# EAGLE library part SOWTER_8044 (library tsyklon-labs)
Sowter Type 8044 Direct Injection (DI) Box Transformer DOUBLE FARADAY SHIELDS http://www.sowter.co.uk/specs/8044.htm
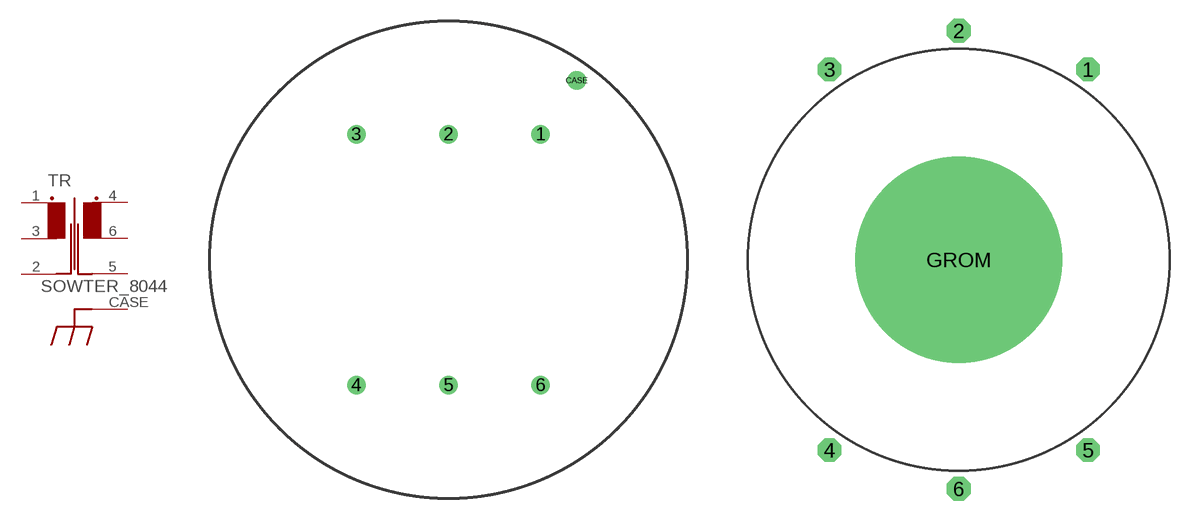
[diagram p2: symbol with the pads of 8044_PCB; footprints 8044_PCB, 8044_GROM]

Designator prefix TR

## SOWTER_8044-PCB  [8044_PCB]
1  1  pas
2  2  pas
3  3  pas
4  4  pas
5  5  pas
6  6  pas
CASE  CASE  pas

## SOWTER_8044-GROM  [8044_GROM]
1  1  pas
2  2  pas
3  3  pas
4  4  pas
5  5  pas
6  6  pas
GROM  CASE  pas

## Footprint 8044_PCB (pad centres in mm)
Audio Transformer MIL-T-27E High Reliability: Red Spec Series Source: www.triadmagnetics.com .. SP-67.pdf
drill 0.8: 1 6.5,8.85; 2 0,8.85; 3 -6.5,8.85; 4 -6.5,-8.85; 5 0,-8.85; 6 6.5,-8.85; CASE 9.04,12.66

## Footprint 8044_GROM (pad centres in mm)
Audio Transformer MIL-T-27E High Reliability: Red Spec Series Source: www.triadmagnetics.com .. SP-67.pdf
drill 1.27 octagon: 1 10.31,15.2; 2 0,18.288; 3 -10.31,15.2; 4 -10.31,-15.2; 5 10.31,-15.2; 6 0,-18.288
drill 9.779 pad 16.51: GROM 0,0